# EAGLE library part FTDI234XD (library chips)
FTDI234XD USB to UART Bridge in 3x3 DFN Package
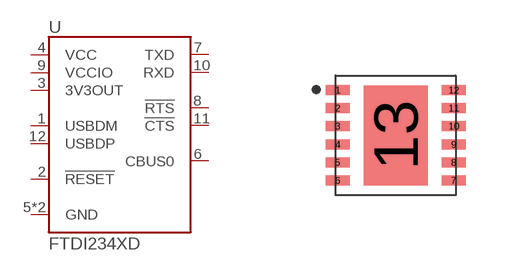
[diagram p27: symbol with the pads of DFN-12/3MM; footprint DFN-12/3MM]

Designator prefix U

## FTDI234XD (DIGIKEY: 768-1178-1-ND; MOUSER: 895-FT234XD-R; NEWARK: 53X3171)  [DFN-12/3MM]
1  USBDM
2  !RESET
3  3V3OUT
4  VCC
5  GND
6  CBUS0
7  TXD
8  !RTS
9  VCCIO
10  RXD
11  !CTS
12  USBDP
13  GND

## Footprint DFN-12/3MM (pad centres in mm)
DFN-12/3MM for FTDI234XD
smd 0.6 x 0.25: 1 -1.45,1.13; 2 -1.45,0.68; 3 -1.45,0.23; 4 -1.45,-0.23; 5 -1.45,-0.68; 6 -1.45,-1.13; 7 1.45,-1.13; 8 1.45,-0.68; 9 1.45,-0.23; 10 1.45,0.23; 11 1.45,0.68; 12 1.45,1.13
smd 1.6 x 2.5: 13 0,0